# Altium schematic symbol library LT6233.Schlib: 1 symbol
Pins are listed as number, name and electrical type; pins without a type are passive.

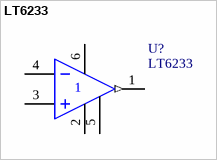
[diagram p0: symbol LT6233]

## LT6233
designator U?
60MHz Operational Amplifier
pins: 1 OUT (out), 2 V-, 3 IN+, 4 IN-, 5, 6